# Altium footprint library Connector_Molex.PcbLib: 815 footprints (part 13 of 51)
Each footprint in its own frame and in the unit in brackets; x right, y up, seen from the top. Pads: shape width x height; smd on the part's side, far side on the other; paste and mask are expansions set on the pad; w line width, h text height; cw(c..) or ccw(c..) is an arc to the next point about the centre after c.
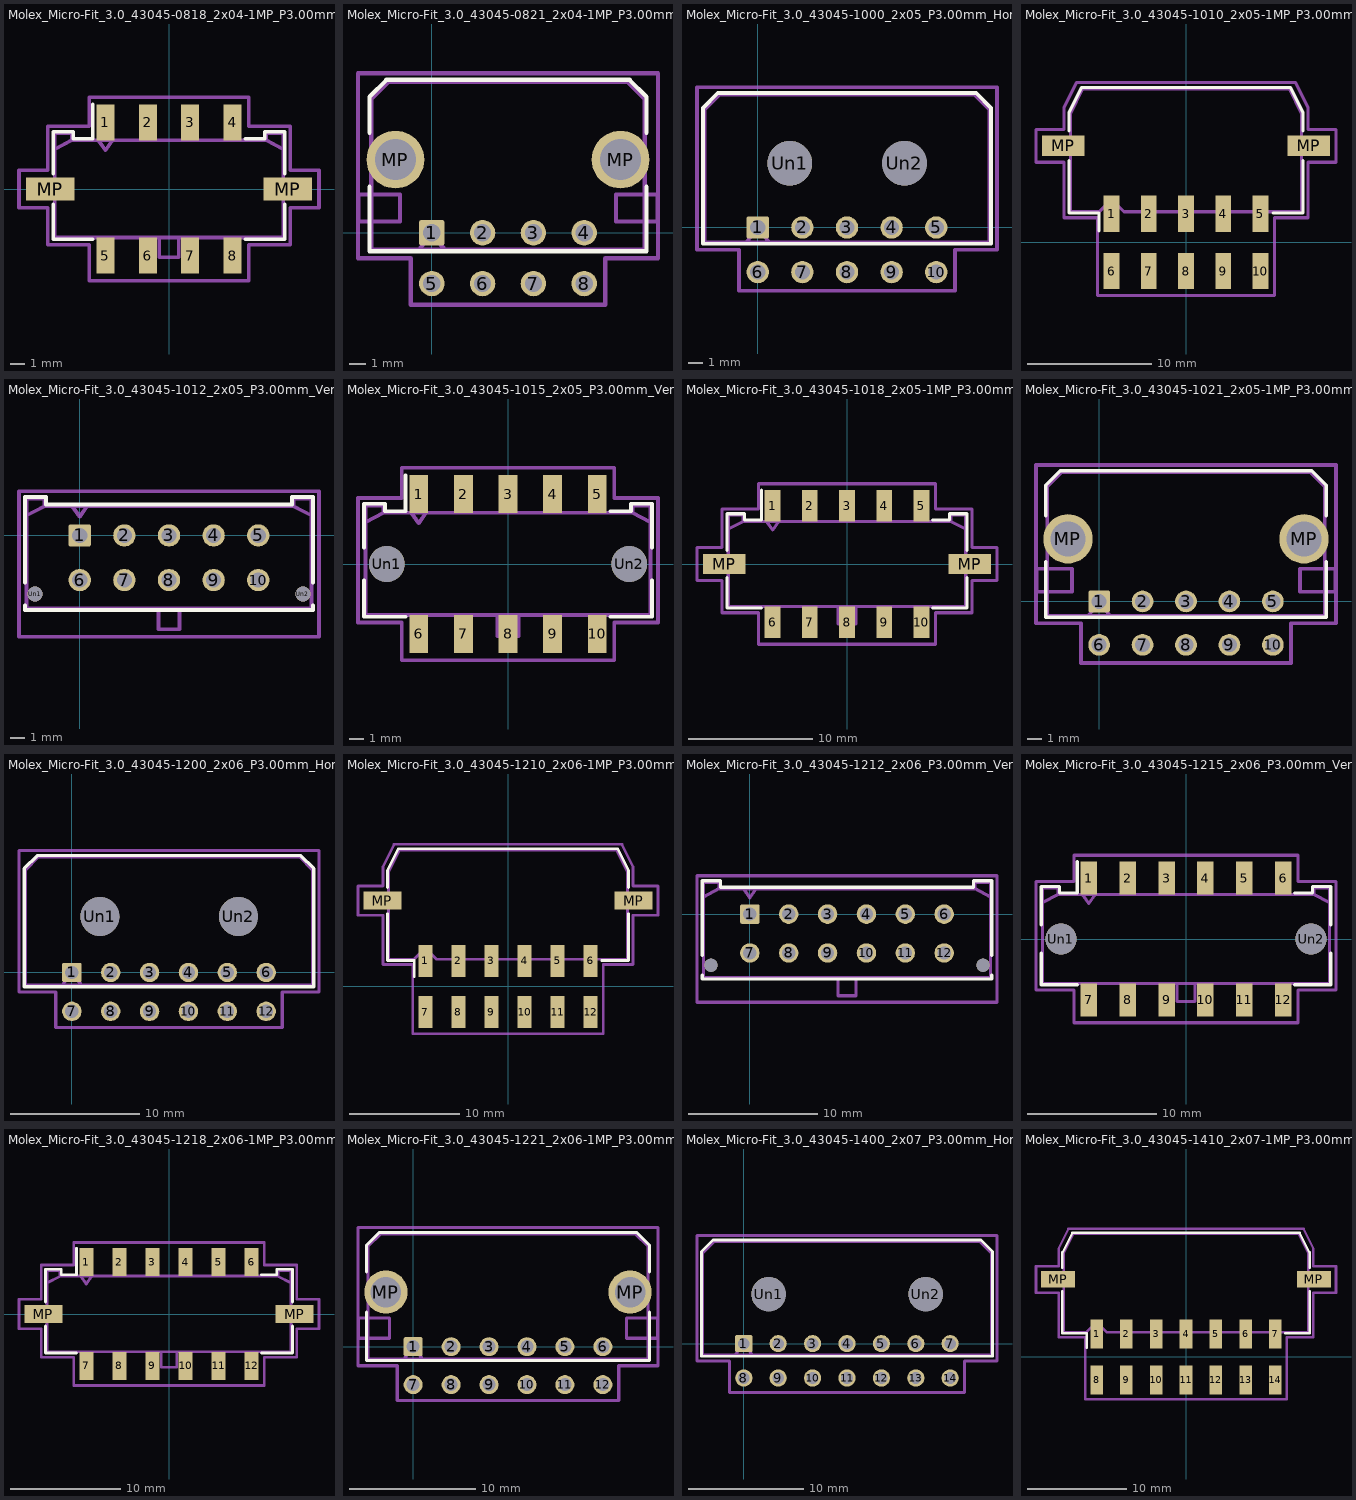
[diagram p12: the footprints below, top view; thin cyan lines are the x and y axes]

## Molex_Micro-Fit_3.0_43045-0818_2x04-1MP_P3.00mm_Vertical [mm]
pads (10):
  rect 1.27x2.54 smd: 1(-4.5,4.7) 2(-1.5,4.7) 3(1.5,4.7) 4(4.5,4.7) 5(-4.5,-4.7) 6(-1.5,-4.7) 7(1.5,-4.7) 8(4.5,-4.7)
  rect 3.43x1.65 smd: MP(-8.385,0) MP(8.385,0)
F.SilkS:
  lines w0.254: -8.185,-1.085 -8.185,-3.54 -5.395,-3.54 ; -8.185,1.085 -8.185,4.05 -6.765,4.05 -6.765,3.55 -5.395,3.55 -5.395,5.97 ; 5.395,-3.54 8.185,-3.54 8.185,-1.085 ; 5.395,3.55 6.765,3.55 6.765,4.05 8.185,4.05 8.185,1.085
Top Assembly:
  lines w0.254: -8.075,2.81 -6.875,3.44 ; -5,3.44 -4.5,2.733 -4,3.44 ; -0.7,-3.43 -0.7,-4.83 0.7,-4.83 0.7,-3.43 ; 8.075,2.81 6.875,3.44 ; -6.875,3.44 6.875,3.44 ; -6.875,3.44 -6.875,3.94 -8.075,3.94 -8.075,-3.43 8.075,-3.43 8.075,3.94 6.875,3.94 6.875,3.44
  text "'.Designator'" at -4.047,-3.57 h1
Top Courtyard:
  lines w0.254: -10.6,-1.33 -8.58,-1.33 -8.58,-3.93 -5.64,-3.93 -5.64,-6.47 0,-6.47 5.64,-6.47 5.64,-3.93 8.58,-3.93 8.58,-1.33 10.6,-1.33 10.6,1.33 8.58,1.33 8.58,4.44 5.64,4.44 5.64,6.47 0,6.47 -5.64,6.47 -5.64,4.44 -8.58,4.44 -8.58,1.33 -10.6,1.33 -10.6,-1.33
Top Designator:
  text ".Designator" at -7.618,-0.508 h1.52

## Molex_Micro-Fit_3.0_43045-0821_2x04-1MP_P3.00mm_Horizontal [mm]
pads (10):
  rrect17% 1.5x1.5 hole 1.02: 1(0,0)
  round 1.5 hole 1.02: 2(3,0) 3(6,0) 4(9,0) 5(0,-3) 6(3,-3) 7(6,-3) 8(9,-3)
  round 3.41 hole 2.41: MP(-2.15,4.32) MP(11.15,4.32)
F.SilkS:
  lines w0.254: -3.685,2.725 -3.685,-1.1 12.685,-1.1 12.685,2.725 ; -3.685,5.915 -3.685,8.03 -2.685,9.03 11.685,9.03 12.685,8.03 12.685,5.915
Top Assembly:
  lines w0.254: -0.75,-0.99 0,0 0.75,-0.99 ; -3.575,-0.99 12.575,-0.99 12.575,7.92 11.575,8.92 -2.575,8.92 -3.575,7.92 -3.575,-0.99
  text "'.Designator'" at 0.453,7.38 h1
Top Courtyard:
  lines w0.254: -4.36,-1.5 -1.25,-1.5 -1.25,-4.25 10.25,-4.25 10.25,-1.5 13.36,-1.5 13.36,9.42 -4.36,9.42 -4.36,-1.5
Top Designator:
  text ".Designator" at -3.118,2.077 h1.52
Dwgs.User:
  lines w0.254: -4.325,0.66 -1.875,0.66 -1.875,2.26 -4.325,2.26 -4.325,0.66 ; 10.875,0.66 13.325,0.66 13.325,2.26 10.875,2.26 10.875,0.66
Cmts.User:
  text "CU KEEPOUT" at 11,1.301 h0.25
  text "CU KEEPOUT" at -4.2,1.301 h0.25

## Molex_Micro-Fit_3.0_43045-1000_2x05_P3.00mm_Horizontal [mm]
pads (12):
  rrect17% 1.5x1.5 hole 1.02: 1(0,0)
  round 1.5 hole 1.02: 2(3,0) 3(6,0) 4(9,0) 5(12,0) 6(0,-3) 7(3,-3) 8(6,-3) 9(9,-3) 10(12,-3)
  round 3 hole 3: Un1(2.16,4.32) Un2(9.86,4.32)
F.SilkS:
  lines w0.254: -3.685,-1.1 -3.685,8.03 -2.685,9.03 14.685,9.03 15.685,8.03 15.685,-1.1 -3.685,-1.1
Top Assembly:
  lines w0.254: -0.75,-0.99 0,0 0.75,-0.99 ; -3.575,-0.99 -3.575,7.92 -2.575,8.92 14.575,8.92 15.575,7.92 15.575,-0.99 -3.575,-0.99
  text "'.Designator'" at 1.953,7.38 h1
Top Courtyard:
  lines w0.254: -4.08,-1.5 -4.08,9.42 16.08,9.42 16.08,-1.5 13.25,-1.5 13.25,-4.25 -1.25,-4.25 -1.25,-1.5 -4.08,-1.5
Top Designator:
  text ".Designator" at -1.618,2.077 h1.52
3D body "Molex_Micro-Fit_3.0_43045-1000_2x05_P3.00mm_Horizontal.stp": height 8.83, standoff -3.12, extent -3.491,-3.306 15.659,8.934

## Molex_Micro-Fit_3.0_43045-1010_2x05-1MP_P3.00mm_Horizontal [mm]
pads (12):
  rect 1.27x2.92 smd: 1(-6,2.315) 2(-3,2.315) 3(0,2.315) 4(3,2.315) 5(6,2.315) 6(-6,-2.315) 7(-3,-2.315) 8(0,-2.315) 9(3,-2.315) 10(6,-2.315)
  rect 3.43x1.65 smd: MP(-9.885,7.785) MP(9.885,7.785)
F.SilkS:
  lines w0.254: -9.435,6.59 -9.435,2.365 -7.005,2.365 -7.005,0.905 ; -9.435,8.98 -9.435,10.495 -8.435,12.495 0,12.495 8.435,12.495 9.435,10.495 9.435,8.98 ; 7.005,2.365 9.435,2.365 9.435,6.59
Top Assembly:
  lines w0.254: -9.325,2.475 -7,2.475 -6,3.475 -5,2.475 0,2.475 6.635,2.475 9.325,2.475 9.325,8.61 9.325,10.385 8.325,12.385 0,12.385 -8.325,12.385 -9.325,10.385 -9.325,8.61 -9.325,2.475
  text "'.Designator'" at -4.047,10.84 h1
Top Courtyard:
  lines w0.254: -12.1,6.46 -9.83,6.46 -9.83,1.98 -7.14,1.98 -7.14,-4.28 0,-4.28 7.14,-4.28 7.14,1.98 9.83,1.98 9.83,6.46 12.1,6.46 12.1,9.11 9.83,9.11 9.83,10.89 8.83,12.89 0,12.89 -8.83,12.89 -9.83,10.89 -9.83,9.11 -12.1,9.11 -12.1,6.46
Top Designator:
  text ".Designator" at -7.618,3.797 h1.52

## Molex_Micro-Fit_3.0_43045-1012_2x05_P3.00mm_Vertical [mm]
pads (12):
  rrect17% 1.5x1.5 hole 1.02: 1(0,0)
  round 1.5 hole 1.02: 2(3,0) 3(6,0) 4(9,0) 5(12,0) 6(0,-3) 7(3,-3) 8(6,-3) 9(9,-3) 10(12,-3)
  round 1.02 hole 1.02: Un1(-3,-3.94) Un2(15,-3.94)
F.SilkS:
  lines w0.254: -3.685,-4.71 -3.685,-5.01 15.685,-5.01 15.685,-4.71 ; -3.685,-3.17 -3.685,2.58 -2.265,2.58 -2.265,2.08 14.265,2.08 14.265,2.58 15.685,2.58 15.685,-3.17
Top Assembly:
  lines w0.254: -3.575,1.34 -2.375,1.97 ; -0.5,1.97 0,1.263 0.5,1.97 ; 5.3,-4.9 5.3,-6.3 6.7,-6.3 6.7,-4.9 ; 15.575,1.34 14.375,1.97 ; -2.375,1.97 14.375,1.97 ; -2.375,1.97 -2.375,2.47 -3.575,2.47 -3.575,-4.9 15.575,-4.9 15.575,2.47 14.375,2.47 14.375,1.97
  text "'.Designator'" at 1.953,-5.04 h1
Top Courtyard:
  lines w0.254: -4.08,-6.81 16.08,-6.81 16.08,2.97 -4.08,2.97 -4.08,-6.81
Top Designator:
  text ".Designator" at -1.618,-2.428 h1.52

## Molex_Micro-Fit_3.0_43045-1015_2x05_P3.00mm_Vertical [mm]
pads (12):
  rect 1.27x2.54 smd: 1(-6,4.7) 2(-3,4.7) 3(0,4.7) 4(3,4.7) 5(6,4.7) 6(-6,-4.7) 7(-3,-4.7) 8(0,-4.7) 9(3,-4.7) 10(6,-4.7)
  round 2.41 hole 2.41: Un1(-8.15,0) Un2(8.15,0)
F.SilkS:
  lines w0.254: -9.685,-1.085 -9.685,-3.54 -6.895,-3.54 ; -9.685,1.085 -9.685,4.05 -8.265,4.05 -8.265,3.55 -6.895,3.55 -6.895,5.97 ; 6.895,-3.54 9.685,-3.54 9.685,-1.085 ; 6.895,3.55 8.265,3.55 8.265,4.05 9.685,4.05 9.685,1.085
Top Assembly:
  lines w0.254: -9.575,2.81 -8.375,3.44 ; -6.5,3.44 -6,2.733 -5.5,3.44 ; -0.7,-3.43 -0.7,-4.83 0.7,-4.83 0.7,-3.43 ; 9.575,2.81 8.375,3.44 ; -8.375,3.44 8.375,3.44 ; -8.375,3.44 -8.375,3.94 -9.575,3.94 -9.575,-3.43 9.575,-3.43 9.575,3.94 8.375,3.94 8.375,3.44
  text "'.Designator'" at -4.047,-3.57 h1
Top Courtyard:
  lines w0.254: -10.08,-3.93 -7.14,-3.93 -7.14,-6.47 0,-6.47 7.14,-6.47 7.14,-3.93 10.08,-3.93 10.08,4.44 7.14,4.44 7.14,6.47 0,6.47 -7.14,6.47 -7.14,4.44 -10.08,4.44 -10.08,-3.93
Top Designator:
  text ".Designator" at -7.618,-0.508 h1.52

## Molex_Micro-Fit_3.0_43045-1018_2x05-1MP_P3.00mm_Vertical [mm]
pads (12):
  rect 1.27x2.54 smd: 1(-6,4.7) 2(-3,4.7) 3(0,4.7) 4(3,4.7) 5(6,4.7) 6(-6,-4.7) 7(-3,-4.7) 8(0,-4.7) 9(3,-4.7) 10(6,-4.7)
  rect 3.43x1.65 smd: MP(-9.885,0) MP(9.885,0)
F.SilkS:
  lines w0.254: -9.685,-1.085 -9.685,-3.54 -6.895,-3.54 ; -9.685,1.085 -9.685,4.05 -8.265,4.05 -8.265,3.55 -6.895,3.55 -6.895,5.97 ; 6.895,-3.54 9.685,-3.54 9.685,-1.085 ; 6.895,3.55 8.265,3.55 8.265,4.05 9.685,4.05 9.685,1.085
Top Assembly:
  lines w0.254: -9.575,2.81 -8.375,3.44 ; -6.5,3.44 -6,2.733 -5.5,3.44 ; -0.7,-3.43 -0.7,-4.83 0.7,-4.83 0.7,-3.43 ; 9.575,2.81 8.375,3.44 ; -8.375,3.44 8.375,3.44 ; -8.375,3.44 -8.375,3.94 -9.575,3.94 -9.575,-3.43 9.575,-3.43 9.575,3.94 8.375,3.94 8.375,3.44
  text "'.Designator'" at -4.047,-3.57 h1
Top Courtyard:
  lines w0.254: -12.1,-1.33 -10.08,-1.33 -10.08,-3.93 -7.14,-3.93 -7.14,-6.47 0,-6.47 7.14,-6.47 7.14,-3.93 10.08,-3.93 10.08,-1.33 12.1,-1.33 12.1,1.33 10.08,1.33 10.08,4.44 7.14,4.44 7.14,6.47 0,6.47 -7.14,6.47 -7.14,4.44 -10.08,4.44 -10.08,1.33 -12.1,1.33 -12.1,-1.33
Top Designator:
  text ".Designator" at -7.618,-0.508 h1.52

## Molex_Micro-Fit_3.0_43045-1021_2x05-1MP_P3.00mm_Horizontal [mm]
pads (12):
  rrect17% 1.5x1.5 hole 1.02: 1(0,0)
  round 1.5 hole 1.02: 2(3,0) 3(6,0) 4(9,0) 5(12,0) 6(0,-3) 7(3,-3) 8(6,-3) 9(9,-3) 10(12,-3)
  round 3.41 hole 2.41: MP(-2.15,4.32) MP(14.15,4.32)
F.SilkS:
  lines w0.254: -3.685,2.725 -3.685,-1.1 15.685,-1.1 15.685,2.725 ; -3.685,5.915 -3.685,8.03 -2.685,9.03 14.685,9.03 15.685,8.03 15.685,5.915
Top Assembly:
  lines w0.254: -0.75,-0.99 0,0 0.75,-0.99 ; -3.575,-0.99 15.575,-0.99 15.575,7.92 14.575,8.92 -2.575,8.92 -3.575,7.92 -3.575,-0.99
  text "'.Designator'" at 1.953,7.38 h1
Top Courtyard:
  lines w0.254: -4.36,-1.5 -1.25,-1.5 -1.25,-4.25 13.25,-4.25 13.25,-1.5 16.36,-1.5 16.36,9.42 -4.36,9.42 -4.36,-1.5
Top Designator:
  text ".Designator" at -1.618,2.077 h1.52
Dwgs.User:
  lines w0.254: -4.325,0.66 -1.875,0.66 -1.875,2.26 -4.325,2.26 -4.325,0.66 ; 13.875,0.66 16.325,0.66 16.325,2.26 13.875,2.26 13.875,0.66
Cmts.User:
  text "CU KEEPOUT" at 14,1.301 h0.25
  text "CU KEEPOUT" at -4.2,1.301 h0.25

## Molex_Micro-Fit_3.0_43045-1200_2x06_P3.00mm_Horizontal [mm]
pads (14):
  rrect17% 1.5x1.5 hole 1.02: 1(0,0)
  round 1.5 hole 1.02: 2(3,0) 3(6,0) 4(9,0) 5(12,0) 6(15,0) 7(0,-3) 8(3,-3) 9(6,-3) 10(9,-3) 11(12,-3) 12(15,-3)
  round 3 hole 3: Un1(2.16,4.32) Un2(12.86,4.32)
F.SilkS:
  lines w0.254: -3.685,-1.1 18.685,-1.1 18.685,8.03 17.685,9.03 -2.685,9.03 -3.685,8.03 -3.685,-1.1
Top Assembly:
  lines w0.254: -0.75,-0.99 0,0 0.75,-0.99 ; -3.575,-0.99 18.575,-0.99 18.575,7.92 17.575,8.92 -2.575,8.92 -3.575,7.92 -3.575,-0.99
  text "'.Designator'" at 3.453,7.38 h1
Top Courtyard:
  lines w0.254: -4.08,-1.5 -1.25,-1.5 -1.25,-4.25 16.25,-4.25 16.25,-1.5 19.08,-1.5 19.08,9.42 -4.08,9.42 -4.08,-1.5
Top Designator:
  text ".Designator" at -0.118,2.077 h1.52

## Molex_Micro-Fit_3.0_43045-1210_2x06-1MP_P3.00mm_Horizontal [mm]
pads (14):
  rect 1.27x2.92 smd: 1(-7.5,2.315) 2(-4.5,2.315) 3(-1.5,2.315) 4(1.5,2.315) 5(4.5,2.315) 6(7.5,2.315) 7(-7.5,-2.315) 8(-4.5,-2.315) 9(-1.5,-2.315) 10(1.5,-2.315) 11(4.5,-2.315) 12(7.5,-2.315)
  rect 3.43x1.65 smd: MP(-11.385,7.785) MP(11.385,7.785)
F.SilkS:
  lines w0.254: -10.935,6.59 -10.935,2.365 -8.505,2.365 -8.505,0.905 ; -10.935,8.98 -10.935,10.495 -9.935,12.495 0,12.495 9.935,12.495 10.935,10.495 10.935,8.98 ; 8.505,2.365 10.935,2.365 10.935,6.59
Top Assembly:
  lines w0.254: -10.825,2.475 -8.5,2.475 -7.5,3.475 -6.5,2.475 0,2.475 8.135,2.475 10.825,2.475 10.825,8.61 10.825,10.385 9.825,12.385 0,12.385 -9.825,12.385 -10.825,10.385 -10.825,8.61 -10.825,2.475
  text "'.Designator'" at -4.047,10.84 h1
Top Courtyard:
  lines w0.254: -13.6,6.46 -11.33,6.46 -11.33,1.98 -8.64,1.98 -8.64,-4.28 0,-4.28 8.64,-4.28 8.64,1.98 11.33,1.98 11.33,6.46 13.6,6.46 13.6,9.11 11.33,9.11 11.33,10.89 10.33,12.89 0,12.89 -10.33,12.89 -11.33,10.89 -11.33,9.11 -13.6,9.11 -13.6,6.46
Top Designator:
  text ".Designator" at -7.618,3.797 h1.52

## Molex_Micro-Fit_3.0_43045-1212_2x06_P3.00mm_Vertical [mm]
pads (14):
  rrect17% 1.5x1.5 hole 1.02: 1(0,0)
  round 1.5 hole 1.02: 2(3,0) 3(6,0) 4(9,0) 5(12,0) 6(15,0) 7(0,-3) 8(3,-3) 9(6,-3) 10(9,-3) 11(12,-3) 12(15,-3)
  round 1.02 hole 1.02: Un1(-3,-3.94) Un2(18,-3.94)
F.SilkS:
  lines w0.254: -3.685,-4.71 -3.685,-5.01 18.685,-5.01 18.685,-4.71 ; -3.685,-3.17 -3.685,2.58 -2.265,2.58 -2.265,2.08 17.265,2.08 17.265,2.58 18.685,2.58 18.685,-3.17
Top Assembly:
  lines w0.254: -3.575,1.34 -2.375,1.97 ; -0.5,1.97 0,1.263 0.5,1.97 ; 6.8,-4.9 6.8,-6.3 8.2,-6.3 8.2,-4.9 ; 18.575,1.34 17.375,1.97 ; -2.375,1.97 17.375,1.97 ; -2.375,1.97 -2.375,2.47 -3.575,2.47 -3.575,-4.9 18.575,-4.9 18.575,2.47 17.375,2.47 17.375,1.97
  text "'.Designator'" at 3.453,-5.04 h1
Top Courtyard:
  lines w0.254: -4.08,-6.81 19.08,-6.81 19.08,2.97 -4.08,2.97 -4.08,-6.81
Top Designator:
  text ".Designator" at -0.118,-2.428 h1.52

## Molex_Micro-Fit_3.0_43045-1215_2x06_P3.00mm_Vertical [mm]
pads (14):
  rect 1.27x2.54 smd: 1(-7.5,4.7) 2(-4.5,4.7) 3(-1.5,4.7) 4(1.5,4.7) 5(4.5,4.7) 6(7.5,4.7) 7(-7.5,-4.7) 8(-4.5,-4.7) 9(-1.5,-4.7) 10(1.5,-4.7) 11(4.5,-4.7) 12(7.5,-4.7)
  round 2.41 hole 2.41: Un1(-9.65,0) Un2(9.65,0)
F.SilkS:
  lines w0.254: -11.185,-1.085 -11.185,-3.54 -8.395,-3.54 ; -11.185,1.085 -11.185,4.05 -9.765,4.05 -9.765,3.55 -8.395,3.55 -8.395,5.97 ; 8.395,-3.54 11.185,-3.54 11.185,-1.085 ; 8.395,3.55 9.765,3.55 9.765,4.05 11.185,4.05 11.185,1.085
Top Assembly:
  lines w0.254: -11.075,2.81 -9.875,3.44 ; -8,3.44 -7.5,2.733 -7,3.44 ; -0.7,-3.43 -0.7,-4.83 0.7,-4.83 0.7,-3.43 ; 11.075,2.81 9.875,3.44 ; -9.875,3.44 9.875,3.44 ; -9.875,3.44 -9.875,3.94 -11.075,3.94 -11.075,-3.43 11.075,-3.43 11.075,3.94 9.875,3.94 9.875,3.44
  text "'.Designator'" at -4.047,-3.57 h1
Top Courtyard:
  lines w0.254: -11.58,-3.93 -8.64,-3.93 -8.64,-6.47 0,-6.47 8.64,-6.47 8.64,-3.93 11.58,-3.93 11.58,4.44 8.64,4.44 8.64,6.47 0,6.47 -8.64,6.47 -8.64,4.44 -11.58,4.44 -11.58,-3.93
Top Designator:
  text ".Designator" at -7.618,-0.508 h1.52

## Molex_Micro-Fit_3.0_43045-1218_2x06-1MP_P3.00mm_Vertical [mm]
pads (14):
  rect 1.27x2.54 smd: 1(-7.5,4.7) 2(-4.5,4.7) 3(-1.5,4.7) 4(1.5,4.7) 5(4.5,4.7) 6(7.5,4.7) 7(-7.5,-4.7) 8(-4.5,-4.7) 9(-1.5,-4.7) 10(1.5,-4.7) 11(4.5,-4.7) 12(7.5,-4.7)
  rect 3.43x1.65 smd: MP(-11.385,0) MP(11.385,0)
F.SilkS:
  lines w0.254: -11.185,-1.085 -11.185,-3.54 -8.395,-3.54 ; -11.185,1.085 -11.185,4.05 -9.765,4.05 -9.765,3.55 -8.395,3.55 -8.395,5.97 ; 8.395,-3.54 11.185,-3.54 11.185,-1.085 ; 8.395,3.55 9.765,3.55 9.765,4.05 11.185,4.05 11.185,1.085
Top Assembly:
  lines w0.254: -11.075,2.81 -9.875,3.44 ; -8,3.44 -7.5,2.733 -7,3.44 ; -0.7,-3.43 -0.7,-4.83 0.7,-4.83 0.7,-3.43 ; 11.075,2.81 9.875,3.44 ; -9.875,3.44 9.875,3.44 ; -9.875,3.44 -9.875,3.94 -11.075,3.94 -11.075,-3.43 11.075,-3.43 11.075,3.94 9.875,3.94 9.875,3.44
  text "'.Designator'" at -4.047,-3.57 h1
Top Courtyard:
  lines w0.254: -13.6,-1.33 -11.58,-1.33 -11.58,-3.93 -8.64,-3.93 -8.64,-6.47 0,-6.47 8.64,-6.47 8.64,-3.93 11.58,-3.93 11.58,-1.33 13.6,-1.33 13.6,1.33 11.58,1.33 11.58,4.44 8.64,4.44 8.64,6.47 0,6.47 -8.64,6.47 -8.64,4.44 -11.58,4.44 -11.58,1.33 -13.6,1.33 -13.6,-1.33
Top Designator:
  text ".Designator" at -7.618,-0.508 h1.52

## Molex_Micro-Fit_3.0_43045-1221_2x06-1MP_P3.00mm_Horizontal [mm]
pads (14):
  rrect17% 1.5x1.5 hole 1.02: 1(0,0)
  round 1.5 hole 1.02: 2(3,0) 3(6,0) 4(9,0) 5(12,0) 6(15,0) 7(0,-3) 8(3,-3) 9(6,-3) 10(9,-3) 11(12,-3) 12(15,-3)
  round 3.41 hole 2.41: MP(-2.15,4.32) MP(17.15,4.32)
F.SilkS:
  lines w0.254: -3.685,2.725 -3.685,-1.1 18.685,-1.1 18.685,2.725 ; -3.685,5.915 -3.685,8.03 -2.685,9.03 17.685,9.03 18.685,8.03 18.685,5.915
Top Assembly:
  lines w0.254: -0.75,-0.99 0,0 0.75,-0.99 ; -3.575,-0.99 18.575,-0.99 18.575,7.92 17.575,8.92 -2.575,8.92 -3.575,7.92 -3.575,-0.99
  text "'.Designator'" at 3.453,7.38 h1
Top Courtyard:
  lines w0.254: -4.36,-1.5 -1.25,-1.5 -1.25,-4.25 16.25,-4.25 16.25,-1.5 19.36,-1.5 19.36,9.42 -4.36,9.42 -4.36,-1.5
Top Designator:
  text ".Designator" at -0.118,2.077 h1.52
Dwgs.User:
  lines w0.254: -4.325,0.66 -1.875,0.66 -1.875,2.26 -4.325,2.26 -4.325,0.66 ; 16.875,0.66 19.325,0.66 19.325,2.26 16.875,2.26 16.875,0.66
Cmts.User:
  text "CU KEEPOUT" at 17,1.301 h0.25
  text "CU KEEPOUT" at -4.2,1.301 h0.25

## Molex_Micro-Fit_3.0_43045-1400_2x07_P3.00mm_Horizontal [mm]
pads (16):
  rrect17% 1.5x1.5 hole 1.02: 1(0,0)
  round 1.5 hole 1.02: 2(3,0) 3(6,0) 4(9,0) 5(12,0) 6(15,0) 7(18,0) 8(0,-3) 9(3,-3) 10(6,-3) 11(9,-3) 12(12,-3) 13(15,-3) 14(18,-3)
  round 3 hole 3: Un1(2.16,4.32) Un2(15.86,4.32)
F.SilkS:
  lines w0.254: -3.685,-1.1 21.685,-1.1 21.685,8.03 20.685,9.03 -2.685,9.03 -3.685,8.03 -3.685,-1.1
Top Assembly:
  lines w0.254: -0.75,-0.99 0,0 0.75,-0.99 ; -3.575,-0.99 21.575,-0.99 21.575,7.92 20.575,8.92 -2.575,8.92 -3.575,7.92 -3.575,-0.99
  text "'.Designator'" at 4.953,7.38 h1
Top Courtyard:
  lines w0.254: -4.08,-1.5 -1.25,-1.5 -1.25,-4.25 19.25,-4.25 19.25,-1.5 22.08,-1.5 22.08,9.42 -4.08,9.42 -4.08,-1.5
Top Designator:
  text ".Designator" at 1.382,2.077 h1.52

## Molex_Micro-Fit_3.0_43045-1410_2x07-1MP_P3.00mm_Horizontal [mm]
pads (16):
  rect 1.27x2.92 smd: 1(-9,2.315) 2(-6,2.315) 3(-3,2.315) 4(0,2.315) 5(3,2.315) 6(6,2.315) 7(9,2.315) 8(-9,-2.315) 9(-6,-2.315) 10(-3,-2.315) 11(0,-2.315) 12(3,-2.315) 13(6,-2.315) 14(9,-2.315)
  rect 3.43x1.65 smd: MP(-12.885,7.785) MP(12.885,7.785)
F.SilkS:
  lines w0.254: -12.435,6.59 -12.435,2.365 -10.005,2.365 -10.005,0.905 ; -12.435,8.98 -12.435,10.495 -11.435,12.495 0,12.495 11.435,12.495 12.435,10.495 12.435,8.98 ; 10.005,2.365 12.435,2.365 12.435,6.59
Top Assembly:
  lines w0.254: -12.325,2.475 -10,2.475 -9,3.475 -8,2.475 0,2.475 9.635,2.475 12.325,2.475 12.325,8.61 12.325,10.385 11.325,12.385 0,12.385 -11.325,12.385 -12.325,10.385 -12.325,8.61 -12.325,2.475
  text "'.Designator'" at -4.047,10.84 h1
Top Courtyard:
  lines w0.254: -15.1,6.46 -12.83,6.46 -12.83,1.98 -10.14,1.98 -10.14,-4.28 0,-4.28 10.14,-4.28 10.14,1.98 12.83,1.98 12.83,6.46 15.1,6.46 15.1,9.11 12.83,9.11 12.83,10.89 11.83,12.89 0,12.89 -11.83,12.89 -12.83,10.89 -12.83,9.11 -15.1,9.11 -15.1,6.46
Top Designator:
  text ".Designator" at -7.618,3.797 h1.52